# EAGLE library part 691241600008 (library Wurth_Connectors_WR-TBL Rising Cage Clamp)
WR-TBL Serie 2416 - 10.16 mm Vertical Entry w. Rising Cage Clamp KIND PROPERTIES Pitch 10.16 mm MATERIAL PROPERTIES Insulator Material PA6/66 Insulator Flammability Rating UL94 V-0 Insulator Color Green Contact Material Copper Alloy Contact Plating Nickel Terminal Screw Material Steel Terminal Screw Plating Zinc Wire Guard Material Copper Alloy with Tin over Nickel GENERAL INFORMATION Operating Temperature -30 up to +120 °C Compliance Lead free / RoHS ELECTRICAL PROPERTIES IR UL 14 A IR VDE 14 A Working Voltage [UL] 300 V (AC) Working Voltage [VDE] 750 V (AC) Withstanding Voltage [UL] 1600 V (AC) Withstanding Voltage [VDE] 3000 V (AC) Contact Resistance 20 mΩ MECHANICAL PROPERTIES Wire Strip Length 6 (mm) Screw M3 CERTIFICATION UL Approval E150931 Cat No. CIA (4) VDE Approval 40021365 Type CIA PACKAGING PROPERTIES Packaging Box <https://www.we-online.com/catalog/media/o84468v209%20Family_WR-TBL2_6912418000xx_6912416000xx.jpg> Details see: https://www.we-online.com/catalog/en/TBL_10_16_2416_VERTICAL_ENTRY_W_RISING_CAGE_CLAMP_6912416000xx/ Updated by Ella Wu 2019-12-04 2019(C) Wurth Elektronik
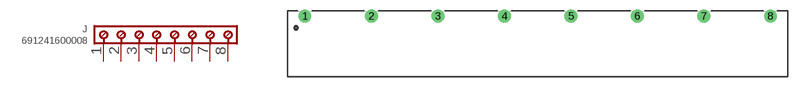
[diagram p147: symbol with the pads of 691241600008; footprint 691241600008]

Designator prefix J

## 691241600008 (IR-UL: 14A; IR-VDE: 14A; PART-NUMBER: 691241600008; PINS: 8; PITCH: 10.16mm; TYPE: Vertical; WIRE: 14 to 30 (AWG) 2.08 to 0.0509 (mm²); WORKING-VOLTAGE-UL: 300V (AC); WORKING-VOLTAGE-VDE: 750V (AC))  [691241600008]
1  1  pas
2  2  pas
3  3  pas
4  4  pas
5  5  pas
6  6  pas
7  7  pas
8  8  pas

## Footprint 691241600008 (pad centres in mm)
WR-TBL Serie 2416 - 10.16 mm Vertical Entry w. Rising Cage Clamp Max Height =8.1mm , Pitch 10.16mm , 8 Pins
drill 1.3: 1 -35.56,0; 2 -25.4,0; 3 -15.24,0; 4 -5.08,0; 5 5.08,0; 6 15.24,0; 7 25.4,0; 8 35.56,0